# Altium schematic symbol library SCH - POWER - SWITCHMODE - TI TPS548A29RWW.SchLib: 1 symbol
Pins are listed as number, name and electrical type; pins without a type are passive.

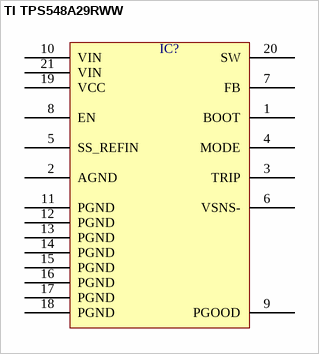
[diagram p0: symbol TI TPS548A29RWW]

## TI TPS548A29RWW
designator IC?  (value not drawn)
pins: 1 BOOT, 2 AGND, 3 TRIP, 4 MODE, 5 SS_REFIN, 6 VSNS-, 7 FB, 8 EN, 9 PGOOD, 10 VIN, 11 PGND, 12 PGND, 13 PGND, 14 PGND, 15 PGND, 16 PGND, 17 PGND, 18 PGND, 19 VCC, 20 SW, 21 VIN